# Altium footprint library Motor_k.PcbLib: 9 footprints
Each footprint in its own frame and in the unit in brackets; x right, y up, seen from the top. Pads: shape width x height; smd on the part's side, far side on the other; paste and mask are expansions set on the pad; w line width, h text height; cw(c..) or ccw(c..) is an arc to the next point about the centre after c.
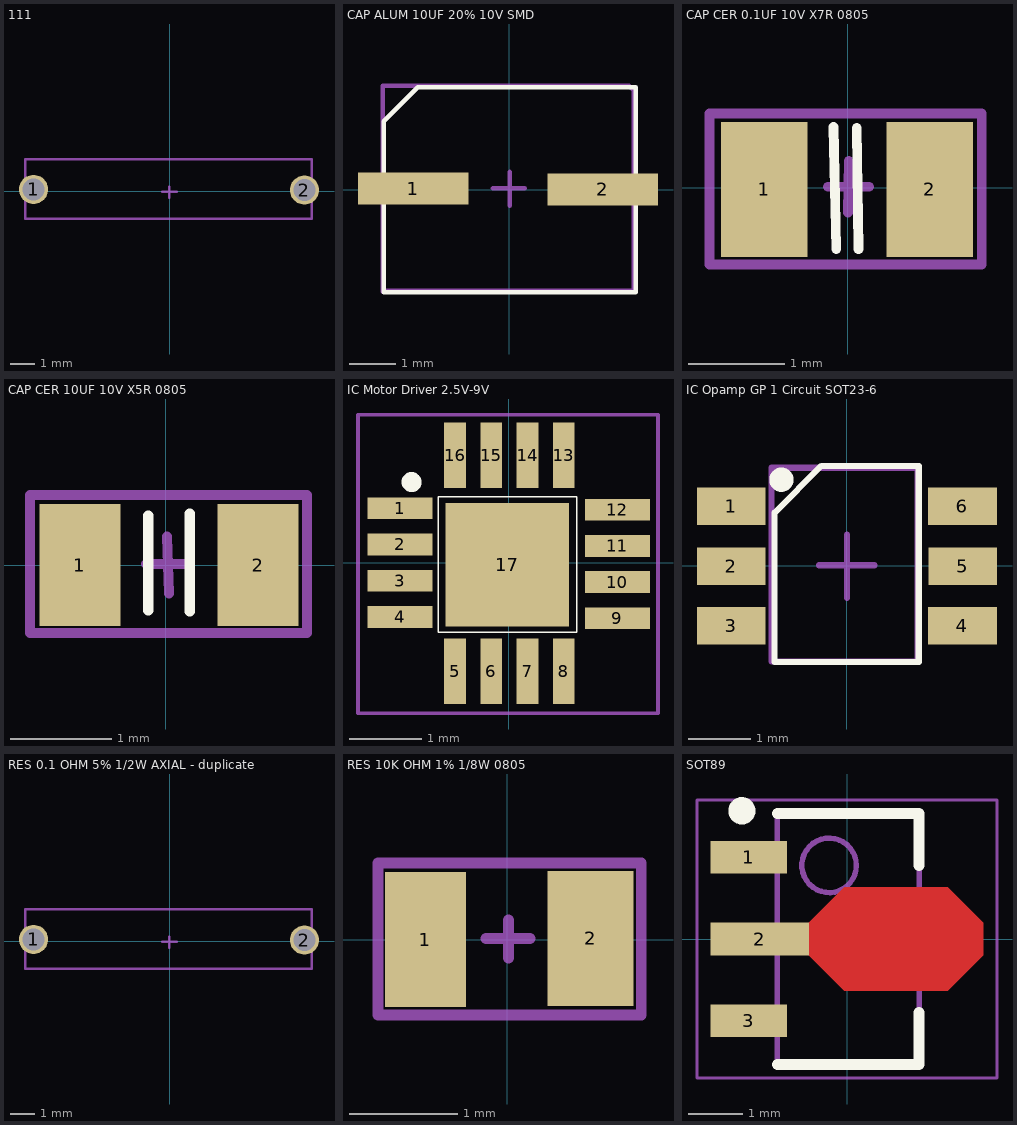
[diagram p0: the footprints below, top view; thin cyan lines are the x and y axes]

## 111 [mm]
pads (2):
  round 1.2 hole 0.9 mask+0.05: 1(-5.59,0.08) 2(5.54,0.05)
Top Component Center:
  lines w0.1: -0.3,-0.01 0.3,-0.01 ; -0.01,-0.27 -0.01,0.19 ; -5.935,-1.135 5.845,-1.135 5.845,1.325 -5.935,1.325 -5.935,-1.135
Top Designator:
  text ".Designator" at -1.35,-0.7 h0.6
3D body "RES_LR1L_TYCO_TYC.step": height 2.48, standoff -2.54, extent -5.892,-1.177 5.845,1.307

## CAP ALUM 10UF 20% 10V SMD [mm]
pads (2):
  rect 2.4x0.7 smd mask+0.05: 1(-2.08,0.03) 2(2.03,0.01)
Top Overlay:
  lines w0.1: -2.72,-2.22 2.75,-2.22 2.75,2.23 -1.98,2.23 -2.72,1.49 -2.72,-2.22
Top Component Center:
  lines w0.1: -0.35,0.04 0.34,0.04 ; 0.01,-0.34 0.01,0.39 ; -2.74,-2.21 -2.74,2.26 2.6,2.26 2.71,2.15 2.71,-2.19 -2.72,-2.19 -2.74,-2.21
Top Designator:
  text ".Designator" at -2.33,-1.503 h0.8
3D body "CAP_EEE_B_PAN.step": height 5.57, standoff 0, extent -2.756,-2.238 2.756,2.258

## CAP CER 0.1UF 10V X7R 0805 [mm]
pads (2):
  rect 0.9x1.4 smd mask+0.05: 1(-0.87,-0.02) 2(0.85,-0.02)
Top Overlay:
  lines w0.1: -0.15,0.63 -0.12,-0.64 ; 0.09,0.62 0.11,-0.64
Top Component Center:
  lines w0.1: -0.21,0.01 0.22,0.01 ; 0,-0.26 0.01,0.28 ; -1.44,-0.8 -1.44,0.77 1.39,0.77 1.39,-0.8 -1.44,-0.8
Top Designator:
  text ".Designator" at -0.95,-0.35 h0.6
3D body "CAP_885012207_WRE.step": height 1.45, standoff 0, extent -1.105,-0.734 1.105,0.714

## CAP CER 10UF 10V X5R 0805 [mm]
pads (2):
  rect 0.8x1.2 smd mask+0.05: 1(-0.85,0) 2(0.91,0)
Top Overlay:
  lines w0.1: -0.175,-0.45 -0.175,0.49 ; 0.235,-0.46 0.235,0.51
Top Component Center:
  lines w0.1: -0.195,0.01 0.235,0.01 ; 0.01,0.279 0.03,-0.279 ; -1.34,-0.67 1.39,-0.67 1.39,0.69 -1.34,0.69 -1.34,-0.67
Top Designator:
  text ".Designator" at -1.24,-0.58 h0.6
3D body "CAP_CL21_SAM.step": height 1.35, standoff 0, extent -0.995,-0.625 1.005,0.625

## IC Motor Driver 2.5V-9V [mm]
pads (17):
  rect 0.9x0.3 smd mask+0.05: 1(-1.5,0.75) 2(-1.5,0.25) 3(-1.5,-0.25) 4(-1.5,-0.75) 9(1.5,-0.77) 10(1.5,-0.27) 11(1.5,0.23) 12(1.5,0.73)
  rect 0.3x0.9 smd mask+0.05: 5(-0.74,-1.5) 6(-0.24,-1.5) 7(0.26,-1.5) 8(0.76,-1.5) 13(0.76,1.48) 14(0.26,1.48) 15(-0.24,1.48) 16(-0.74,1.48)
  rect 1.7x1.7 smd mask+0.05: 17(-0.02,-0.03)
Top Overlay:
  circle w0.254: c-1.34,1.11 r0.01
  lines w0.02: -0.97,-0.96 -0.97,0.91 0.94,0.91 0.94,-0.96 -0.97,-0.96
Top Component Center:
  lines w0.01: -0.23,0 0.23,0 ; 0,-0.17 0,0.17
  lines w0.05: -2.08,-2.08 -2.08,2.04 2.06,2.04 2.06,-2.08 -2.08,-2.08
Top Designator:
  text ".Designator" at -0.649,-0.11 h0.6
3D body "A3918SESTR-T_ALM.step": height 0.76, standoff 0, extent -1.49,-1.52 1.51,1.48

## IC Opamp GP 1 Circuit SOT23-6 [mm]
pads (6):
  rect 1.1x0.6 smd mask+0.05: 1(-1.852,0.955) 2(-1.852,-0.005) 3(-1.852,-0.955) 4(1.848,-0.955) 5(1.852,-0.01) 6(1.848,0.955)
Top Overlay:
  circle w0.254: c-1.05,1.38 r0.067
  lines w0.1: -1.16,-1.54 1.15,-1.54 1.15,1.6 -0.41,1.6 -1.16,0.85 -1.16,-1.54
Top Component Center:
  lines w0.1: -0.45,0.01 0.44,0.01 ; 0,-0.51 0,0.5 ; 1.08,1.57 -1.21,1.57 -1.21,-1.53 1.13,-1.53 1.13,1.53
Top Designator:
  text ".Designator" at -0.729,-0.39 h0.6
3D body "SOT-23-6_MC_MCH.step": height 1.45, standoff 0, extent -1.672,-1.543 1.528,1.555

## RES 0.1 OHM 5% 1/2W AXIAL - duplicate [mm]
pads (2):
  round 1.2 hole 0.9 mask+0.05: 1(-5.59,0.08) 2(5.54,0.05)
Top Component Center:
  lines w0.1: -0.3,-0.01 0.3,-0.01 ; -0.01,-0.27 -0.01,0.19 ; -5.935,-1.135 -5.935,1.325 5.845,1.325 5.845,-1.135 -5.935,-1.135
Top Designator:
  text ".Designator" at -1.35,-0.7 h0.6
3D body "RES_LR1L_TYCO_TYC.step": height 2.48, standoff -2.54, extent -5.892,-1.177 5.845,1.307

## RES 10K OHM 1% 1/8W 0805 [mm]
pads (2):
  rect 0.75x1.25 smd mask+0.05: 1(-0.76,0)
  rect 0.8x1.25 smd mask+0.05: 2(0.77,0.01)
Top Component Center:
  lines w0.1: -0.2,0.01 0.21,0.01 ; 0.01,-0.17 0.01,0.18 ; -1.2,-0.7 -1.2,0.71 1.24,0.71 1.24,-0.7 -1.2,-0.7
Top Designator:
  text ".Designator" at -1.16,-0.62 h0.6
3D body "RC0805N_YAG.step": height 0.71, standoff 0, extent -1.003,-0.587 1.003,0.607

## SOT89 [mm] "SOT89, 3-Leads, Body 4,50x2,45mm, Pitch 1,50mm, Lead Span 4,1mm, IPC Medium Density"
height 1.6
pads (3):
  rect 1.4x0.6 smd: 1(-1.8,1.5) 3(-1.8,-1.5)
  rect 1.8x0.6 smd: 2(-1.6,0)
Top Layer:
  region: -0.7,0.3 -0.05,0.95 1.85,0.95 2.5,0.3 2.5,-0.3 1.85,-0.95 -0.05,-0.95 -0.7,-0.3
Top Overlay:
  circle w0.25: c-1.927,2.35 r0.125
  lines w0.2: -1.278,-2.3 1.322,-2.3 1.322,-1.35 ; -1.278,2.3 1.322,2.3 1.322,1.35
Top Designator:
  text ".Designator" at -1.43,-2.383 h0.8
Mechanical 13:
  circle w0.1: c-0.327,1.35 r0.5
  lines w0.1: -1.278,-2.3 1.322,-2.3 1.322,2.3 -1.278,2.3 -1.278,-2.3
Mechanical 15:
  lines w0.05: -2.75,-2.55 2.75,-2.55 2.75,2.55 -2.75,2.55 -2.75,-2.55
  lines w0.1: -0.477,0 0.523,0 ; 0.022,-0.5 0.022,0.5
3D body "SOT89.step": height 1.6, standoff 0, extent -2.2,-2.3 1.85,2.3